# EAGLE library part 8PIN (library Headers)
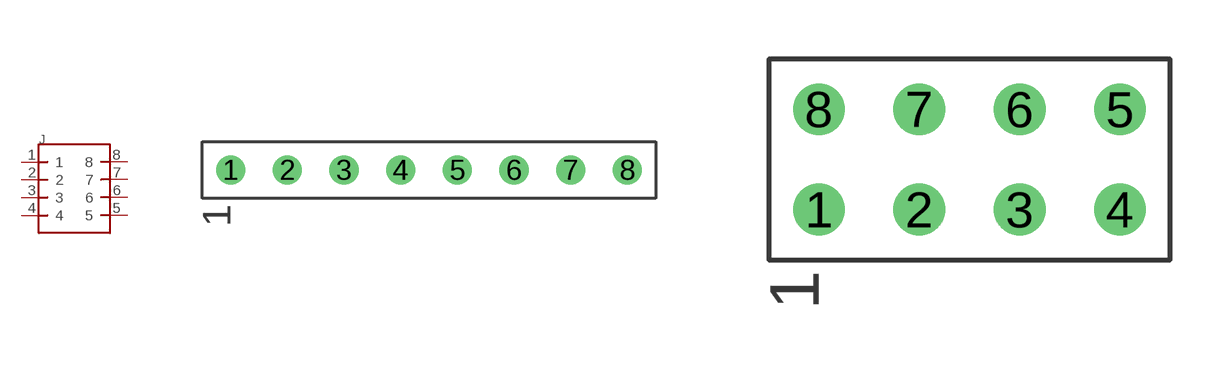
[diagram p6: symbol with the pads of 2.54MM1X8TH; footprints 2.54MM1X8TH, 2.54MM2X4TH]

Designator prefix J

## 8PIN2.54MM1X8TH  [2.54MM1X8TH]
1  1
2  2
3  3
4  4
5  5
6  6
7  7
8  8

## 8PIN2.54MM2X4TH  [2.54MM2X4TH]
Pads as for 2.54MM1X8TH

## Footprint 2.54MM1X8TH (pad centres in mm)
drill 0.8: 1 0,0; 2 2.54,0; 3 5.08,0; 4 7.62,0; 5 10.16,0; 6 12.7,0; 7 15.24,0; 8 17.78,0

## Footprint 2.54MM2X4TH (pad centres in mm)
drill 0.8: 1 0,0; 2 2.54,0; 3 5.08,0; 4 7.62,0; 5 7.62,2.54; 6 5.08,2.54; 7 2.54,2.54; 8 0,2.54